# Altium schematic symbol library 9V.SchLib: 1 symbol
Pins are listed as number, name and electrical type; pins without a type are passive.

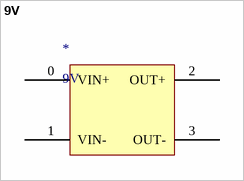
[diagram p0: symbol 9V]

## 9V
designator *
footprint PCBComponent_1
pins: 0 VIN+, 1 VIN-, 2 OUT+, 3 OUT-